# Altium footprint library PcbLib1.PcbLib: 26 footprints (part 2 of 2)
Each footprint in its own frame and in the unit in brackets; x right, y up, seen from the top. Pads: shape width x height; smd on the part's side, far side on the other; paste and mask are expansions set on the pad; w line width, h text height; cw(c..) or ccw(c..) is an arc to the next point about the centre after c.
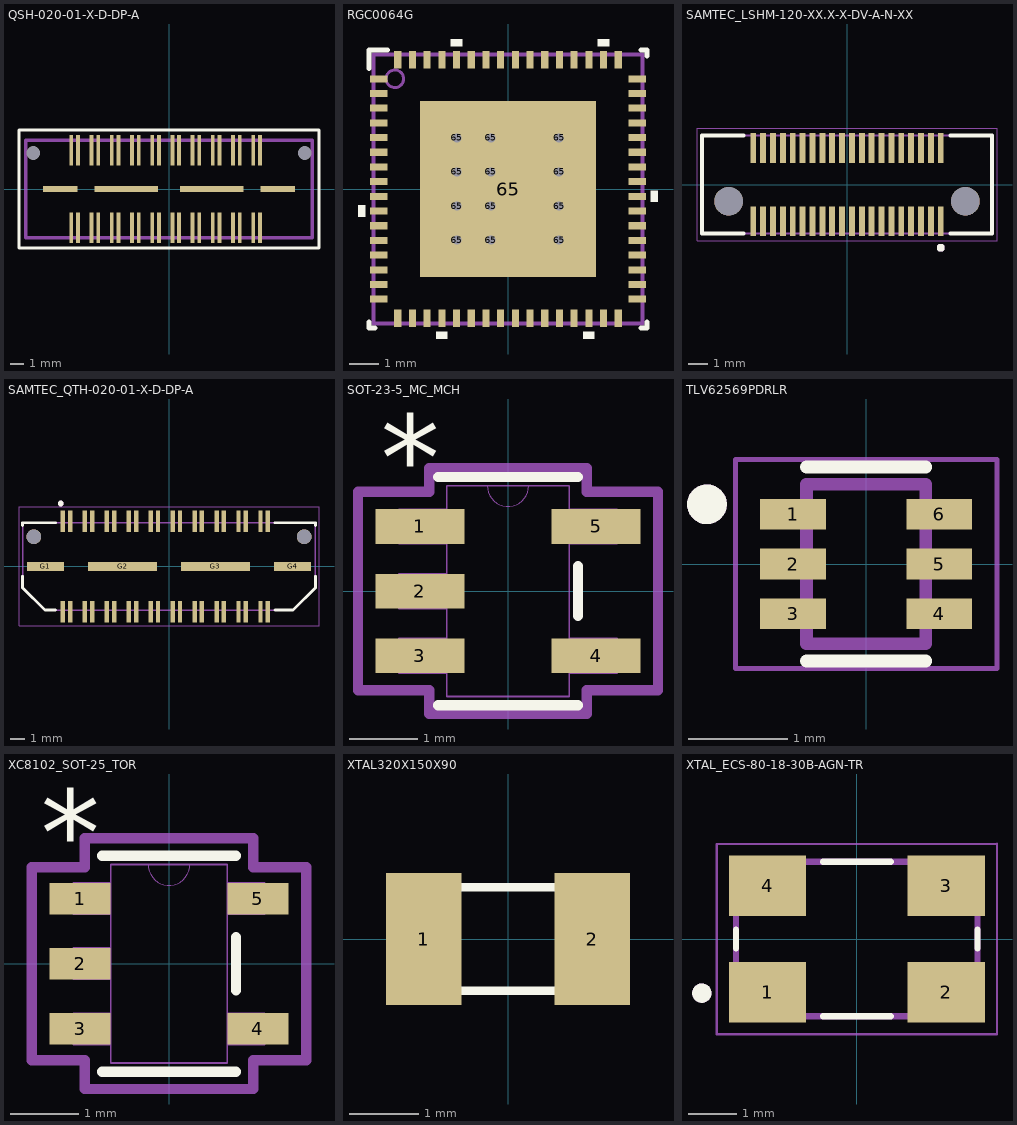
[diagram p1: the footprints below, top view; thin cyan lines are the x and y axes]

## PCBComponent_1 [mm]

## QSH-020-01-X-D-DP-A [mm]
pads (46):
  rect 0.28x2.27 smd mask+0.05: 1(-7.25,-2.87) 2(-7.25,2.87) 3(-6.75,-2.87) 4(-6.75,2.87) 5(-5.75,-2.87) 6(-5.75,2.87) 7(-5.25,-2.87) 8(-5.25,2.87) 9(-4.25,-2.87) 10(-4.25,2.87) 11(-3.75,-2.87) 12(-3.75,2.87) 13(-2.75,-2.87) 14(-2.75,2.87) 15(-2.25,-2.87) 16(-2.25,2.87) 17(-1.25,-2.87) 18(-1.25,2.87) 19(-0.75,-2.87) 20(-0.75,2.87) 21(0.25,-2.87) 22(0.25,2.87) 23(0.75,-2.87) 24(0.75,2.87) 25(1.75,-2.87) 26(1.75,2.87) 27(2.25,-2.87) 28(2.25,2.87) 29(3.25,-2.87) 30(3.25,2.87) 31(3.75,-2.87) 32(3.75,2.87) 33(4.75,-2.87) 34(4.75,2.87) 35(5.25,-2.87) 36(5.25,2.87) 37(6.25,-2.87) 38(6.25,2.87) 39(6.75,-2.87) 40(6.75,2.87)
  rect 2.54x0.43 smd mask+0.05: G1(-8.065,0) G4(8.065,0)
  rect 4.7x0.43 smd mask+0.05: G2(-3.175,0) G3(3.175,0)
  round 0 hole 1.02 unplated: MH1(-10.065,2.67) MH2(10.065,2.67)
Top Overlay:
  lines w0.254: -11.13,-4.38 11.13,-4.38 11.13,4.38 -11.13,4.38 -11.13,-4.38
Mechanical 1:
  lines w0.254: -10.636,-3.62 10.636,-3.62 10.636,3.62 -10.636,3.62 -10.636,-3.62
  text "J1" at -0.497,-0.508 h0.76
3D body "QSH-020-01-L-D-DP-A.stp": height 3.06, standoff -0.94, extent -10.655,-3.747 10.655,3.747

## RGC0064G [mm]
pads (77):
  rect 0.6x0.24 smd paste+0 mask+0: 1(-4.4,3.75) 2(-4.4,3.25) 3(-4.4,2.75) 4(-4.4,2.25) 5(-4.4,1.75) 6(-4.4,1.25) 7(-4.4,0.75) 8(-4.4,0.25) 9(-4.4,-0.25) 10(-4.4,-0.75) 11(-4.4,-1.25) 12(-4.4,-1.75) 13(-4.4,-2.25) 14(-4.4,-2.75) 15(-4.4,-3.25) 16(-4.4,-3.75) 33(4.4,-3.75) 34(4.4,-3.25) 35(4.4,-2.75) 36(4.4,-2.25) 37(4.4,-1.75) 38(4.4,-1.25) 39(4.4,-0.75) 40(4.4,-0.25) 41(4.4,0.25) 42(4.4,0.75) 43(4.4,1.25) 44(4.4,1.75) 45(4.4,2.25) 46(4.4,2.75) 47(4.4,3.25) 48(4.4,3.75)
  rect 0.24x0.6 smd paste+0 mask+0: 17(-3.751,-4.4) 18(-3.251,-4.4) 19(-2.751,-4.4) 20(-2.251,-4.4) 21(-1.75,-4.4) 22(-1.25,-4.4) 23(-0.75,-4.4) 24(-0.25,-4.4) 25(0.25,-4.4) 26(0.75,-4.4) 27(1.25,-4.4) 28(1.75,-4.4) 29(2.251,-4.4) 30(2.751,-4.4) 31(3.251,-4.4) 32(3.751,-4.4) 49(3.751,4.4) 50(3.251,4.4) 51(2.751,4.4) 52(2.251,4.4) 53(1.75,4.4) 54(1.25,4.4) 55(0.75,4.4) 56(0.25,4.4) 57(-0.25,4.4) 58(-0.75,4.4) 59(-1.25,4.4) 60(-1.75,4.4) 61(-2.251,4.4) 62(-2.751,4.4) 63(-3.251,4.4) 64(-3.751,4.4)
  round 0.5 hole 0.3 mask+0: 65(-1.74,-1.74) 65(-1.74,-0.58) 65(-1.74,0.58) 65(-1.74,1.74) 65(-0.58,-1.74) 65(-0.58,-0.58) 65(-0.58,0.58) 65(-0.58,1.74) 65(1.74,-1.74) 65(1.74,-0.58) 65(1.74,0.58) 65(1.74,1.74)
  rect 6x6 smd paste-3 mask+0: 65(0,0)
Top Overlay:
  region: -1.56,5.103 -1.56,4.849 -1.941,4.849 -1.941,5.103
  region: 3.441,5.103 3.441,4.849 3.06,4.849 3.06,5.103
  region: 4.849,-0.44 4.849,-0.059 5.103,-0.059 5.103,-0.44
  region: 2.941,-5.103 2.941,-4.849 2.56,-4.849 2.56,-5.103
  region: -2.06,-5.103 -2.06,-4.849 -2.441,-4.849 -2.441,-5.103
  region: -4.849,-0.941 -4.849,-0.56 -5.103,-0.56 -5.103,-0.941
  lines w0.178: -4.725,-4.525 -4.725,-4.725 -4.525,-4.725 ; -4.725,4.096 -4.725,4.725 -4.097,4.725 ; 4.525,-4.725 4.725,-4.725 4.725,-4.525 ; 4.525,4.725 4.725,4.725 4.725,4.525
Top Paste:
  region: 1.84,-1.84 1.84,-2.8 2.8,-2.8 2.8,-1.84
  region: 0.68,-1.84 0.68,-2.8 1.64,-2.8 1.64,-1.84
  region: -0.48,-1.84 -0.48,-2.8 0.48,-2.8 0.48,-1.84
  region: 1.84,-0.68 1.84,-1.64 2.8,-1.64 2.8,-0.68
  region: 0.68,-0.68 0.68,-1.64 1.64,-1.64 1.64,-0.68
  region: -1.64,-1.84 -1.64,-2.8 -0.68,-2.8 -0.68,-1.84
  region: -2.8,-1.84 -2.8,-2.8 -1.84,-2.8 -1.84,-1.84
  region: -2.8,-0.68 -2.8,-1.64 -1.84,-1.64 -1.84,-0.68
  region: -1.64,-0.68 -1.64,-1.64 -0.68,-1.64 -0.68,-0.68
  region: -0.48,-0.68 -0.48,-1.64 0.48,-1.64 0.48,-0.68
  region: 1.84,0.48 1.84,-0.48 2.8,-0.48 2.8,0.48
  region: 1.84,1.64 1.84,0.68 2.8,0.68 2.8,1.64
  region: 0.68,1.64 0.68,0.68 1.64,0.68 1.64,1.64
  region: 1.84,2.8 1.84,1.84 2.8,1.84 2.8,2.8
  region: 0.68,2.8 0.68,1.84 1.64,1.84 1.64,2.8
  region: -0.48,2.8 -0.48,1.84 0.48,1.84 0.48,2.8
  region: -1.64,2.8 -1.64,1.84 -0.68,1.84 -0.68,2.8
  region: -2.8,2.8 -2.8,1.84 -1.84,1.84 -1.84,2.8
  region: -0.48,1.64 -0.48,0.68 0.48,0.68 0.48,1.64
  region: -1.64,1.64 -1.64,0.68 -0.68,0.68 -0.68,1.64
  region: -2.8,1.64 -2.8,0.68 -1.84,0.68 -1.84,1.64
  region: -2.8,0.48 -2.8,-0.48 -1.84,-0.48 -1.84,0.48
  region: 0.68,0.48 0.68,-0.48 1.64,-0.48 1.64,0.48
  region: -1.64,0.48 -1.64,-0.48 -0.68,-0.48 -0.68,0.48
  region: -0.48,0.48 -0.48,-0.48 0.48,-0.48 0.48,0.48
Mechanical 13:
  circle w0.1: c-3.85,3.75 r0.3
  lines w0.127: -4.575,-4.575 -4.575,4.575 4.575,4.575 4.575,-4.575 -4.575,-4.575 ; -4.575,-3.9 -4.575,-3.6 -4.575,-3.9 ; -4.575,-3.4 -4.575,-3.1 -4.575,-3.4 ; -4.575,-2.9 -4.575,-2.6 -4.575,-2.9 ; -4.575,-2.4 -4.575,-2.1 -4.575,-2.4 ; -4.575,-1.9 -4.575,-1.6 -4.575,-1.9 ; -4.575,-1.4 -4.575,-1.1 -4.575,-1.4 ; -4.575,-0.9 -4.575,-0.6 -4.575,-0.9 ; -4.575,-0.4 -4.575,-0.1 -4.575,-0.4 ; -4.575,0.1 -4.575,0.4 -4.575,0.1 ; -4.575,0.6 -4.575,0.9 -4.575,0.6 ; -4.575,1.1 -4.575,1.4 -4.575,1.1 ; -4.575,1.6 -4.575,1.9 -4.575,1.6 ; -4.575,2.1 -4.575,2.4 -4.575,2.1 ; -4.575,2.6 -4.575,2.9 -4.575,2.6 ; -4.575,3.1 -4.575,3.4 -4.575,3.1 ; -4.575,3.6 -4.575,3.9 -4.575,3.6 ; -3.9,-4.575 -3.6,-4.575 -3.9,-4.575 ; -3.9,4.575 -3.6,4.575 -3.9,4.575 ; -3.4,-4.575 -3.1,-4.575 -3.4,-4.575 ; -3.4,4.575 -3.1,4.575 -3.4,4.575 ; -2.9,-4.575 -2.6,-4.575 -2.9,-4.575 ; -2.9,4.575 -2.6,4.575 -2.9,4.575 ; -2.4,-4.575 -2.1,-4.575 -2.4,-4.575 ; -2.4,4.575 -2.1,4.575 -2.4,4.575 ; -1.9,-4.575 -1.6,-4.575 -1.9,-4.575 ; -1.9,4.575 -1.6,4.575 -1.9,4.575 ; -1.4,-4.575 -1.1,-4.575 -1.4,-4.575 ; -1.4,4.575 -1.1,4.575 -1.4,4.575 ; -0.9,-4.575 -0.6,-4.575 -0.9,-4.575 ; -0.9,4.575 -0.6,4.575 -0.9,4.575 ; -0.4,-4.575 -0.1,-4.575 -0.4,-4.575 ; -0.4,4.575 -0.1,4.575 -0.4,4.575 ; 0.1,-4.575 0.4,-4.575 0.1,-4.575 ; 0.1,4.575 0.4,4.575 0.1,4.575 ; 0.6,-4.575 0.9,-4.575 0.6,-4.575 ; 0.6,4.575 0.9,4.575 0.6,4.575 ; 1.1,-4.575 1.4,-4.575 1.1,-4.575 ; 1.1,4.575 1.4,4.575 1.1,4.575 ; 1.6,-4.575 1.9,-4.575 1.6,-4.575 ; 1.6,4.575 1.9,4.575 1.6,4.575 ; 2.1,-4.575 2.4,-4.575 2.1,-4.575 ; 2.1,4.575 2.4,4.575 2.1,4.575 ; 2.6,-4.575 2.9,-4.575 2.6,-4.575 ; 2.6,4.575 2.9,4.575 2.6,4.575 ; 3.1,-4.575 3.4,-4.575 3.1,-4.575 ; 3.1,4.575 3.4,4.575 3.1,4.575 ; 3.6,-4.575 3.9,-4.575 3.6,-4.575 ; 3.6,4.575 3.9,4.575 3.6,4.575 ; 4.575,-3.9 4.575,-3.6 4.575,-3.9 ; 4.575,-3.4 4.575,-3.1 4.575,-3.4 ; 4.575,-2.9 4.575,-2.6 4.575,-2.9 ; 4.575,-2.4 4.575,-2.1 4.575,-2.4 ; 4.575,-1.9 4.575,-1.6 4.575,-1.9 ; 4.575,-1.4 4.575,-1.1 4.575,-1.4 ; 4.575,-0.9 4.575,-0.6 4.575,-0.9 ; 4.575,-0.4 4.575,-0.1 4.575,-0.4 ; 4.575,0.1 4.575,0.4 4.575,0.1 ; 4.575,0.6 4.575,0.9 4.575,0.6 ; 4.575,1.1 4.575,1.4 4.575,1.1 ; 4.575,1.6 4.575,1.9 4.575,1.6 ; 4.575,2.1 4.575,2.4 4.575,2.1 ; 4.575,2.6 4.575,2.9 4.575,2.6 ; 4.575,3.1 4.575,3.4 4.575,3.1 ; 4.575,3.6 4.575,3.9 4.575,3.6
  text ".Designator" at -1.85,-1.135 h1.27
3D body "RGC0064B.stp": height 1, standoff 0, extent -4.5,-4.5 4.5,4.5
3D body: height 0.25, standoff 0, extent 0,0 0.254,0.254

## SAMTEC_LSHM-120-XX.X-X-DV-A-N-XX [mm]
pads (42):
  rect 0.3x1.5 smd: 01(4.75,-1.85) 02(4.75,1.85) 03(4.25,-1.85) 04(4.25,1.85) 05(3.75,-1.85) 06(3.75,1.85) 07(3.25,-1.85) 08(3.25,1.85) 09(2.75,-1.85) 10(2.75,1.85) 11(2.25,-1.85) 12(2.25,1.85) 13(1.75,-1.85) 14(1.75,1.85) 15(1.25,-1.85) 16(1.25,1.85) 17(0.75,-1.85) 18(0.75,1.85) 19(0.25,-1.85) 20(0.25,1.85) 21(-0.25,-1.85) 22(-0.25,1.85) 23(-0.75,-1.85) 24(-0.75,1.85) 25(-1.25,-1.85) 26(-1.25,1.85) 27(-1.75,-1.85) 28(-1.75,1.85) 29(-2.25,-1.85) 30(-2.25,1.85) 31(-2.75,-1.85) 32(-2.75,1.85) 33(-3.25,-1.85) 34(-3.25,1.85) 35(-3.75,-1.85) 36(-3.75,1.85) 37(-4.25,-1.85) 38(-4.25,1.85) 39(-4.75,-1.85) 40(-4.75,1.85)
  round 1.45 hole 1.45 unplated: ""(-6,-0.85) ""(6,-0.85)
Top Overlay:
  circle w0.2: c4.75,-3.2 r0.1
  lines w0.2: -5.25,-2.49 -7.35,-2.49 -7.35,2.49 -5.25,2.49 ; 5.25,-2.49 7.35,-2.49 7.35,2.49 5.25,2.49
Mechanical 13:
  circle w0.2: c4.75,-3.2 r0.1
  lines w0.1: -7.35,-2.49 7.35,-2.49 7.35,2.49 -7.35,2.49 -7.35,-2.49
Mechanical 15:
  lines w0.05: -7.6,-2.85 7.6,-2.85 7.6,2.85 -7.6,2.85 -7.6,-2.85
3D body "LSHM-120-02.5-L-DV-A-N-K-TR.stp": height 4.11, standoff -0.84, extent -7.4,-2.49 7.4,2.49

## SAMTEC_QTH-020-01-X-D-DP-A [mm]
pads (46):
  rect 0.3x1.45 smd: 01(-7.25,3.09) 02(-7.25,-3.09) 03(-6.75,3.09) 04(-6.75,-3.09) 05(-5.75,3.09) 06(-5.75,-3.09) 07(-5.25,3.09) 08(-5.25,-3.09) 09(-4.25,3.09) 10(-4.25,-3.09) 11(-3.75,3.09) 12(-3.75,-3.09) 13(-2.75,3.09) 14(-2.75,-3.09) 15(-2.25,3.09) 16(-2.25,-3.09) 17(-1.25,3.09) 18(-1.25,-3.09) 19(-0.75,3.09) 20(-0.75,-3.09) 21(0.25,3.09) 22(0.25,-3.09) 23(0.75,3.09) 24(0.75,-3.09) 25(1.75,3.09) 26(1.75,-3.09) 27(2.25,3.09) 28(2.25,-3.09) 29(3.25,3.09) 30(3.25,-3.09) 31(3.75,3.09) 32(3.75,-3.09) 33(4.75,3.09) 34(4.75,-3.09) 35(5.25,3.09) 36(5.25,-3.09) 37(6.25,3.09) 38(6.25,-3.09) 39(6.75,3.09) 40(6.75,-3.09)
  rect 2.54x0.64 smd: G1(-8.445,0) G4(8.445,0)
  rect 4.7x0.64 smd: G2(-3.175,0) G3(3.175,0)
  round 1.02 hole 1.02 unplated: ""(-9.24,2.03) ""(9.24,2.03)
Top Overlay:
  circle w0.2: c-7.4,4.3 r0.1
  lines w0.2: -10,-0.67 -10,-1.465 -8.48,-2.985 -7.75,-2.985 ; -10,2.79 -10,2.985 -7.75,2.985 ; 7.25,-2.985 8.48,-2.985 10,-1.465 10,-0.67 ; 7.25,2.985 10,2.985 10,2.79
Mechanical 13:
  circle w0.2: c-7.4,4.3 r0.1
  lines w0.1: -10,-1.465 -10,2.985 10,2.985 10,-1.465 8.48,-2.985 -8.48,-2.985 -10,-1.465
Mechanical 15:
  lines w0.05: -10.25,-4.065 -10.25,4.065 10.25,4.065 10.25,-4.065 -10.25,-4.065
3D body "QTH-020-01-L-D-DP-A.stp": height 4.08, standoff -0.95, extent -10.008,-3.556 10.008,3.556

## SOT-23-5_MC_MCH [mil]
pads (5):
  rect 51.56x20 smd paste+0 mask+0: 1(-51,37.4) 2(-51,0) 3(-51,-37.4) 4(51,-37.4) 5(51,37.4)
Top Overlay:
  lines w6: -40.5,-66 40.5,-66 ; -40.5,66 40.5,66 ; 40.5,-14.3 40.5,14.3
  text "*" at -73.5,52.4 h50
Mechanical 13:
  lines w0: -12,61 ccw(c0,61) 12,61
  lines w1: -63,-47.4 -63,-27.4 -35.5,-27.4 -35.5,-47.4 -63,-47.4 ; -63,-10 -63,10 -35.5,10 -35.5,-10 -63,-10 ; -63,27.4 -63,47.4 -35.5,47.4 -35.5,27.4 -63,27.4 ; -35.5,-61 35.5,-61 35.5,61 -35.5,61 -35.5,-61 ; 35.5,-47.4 35.5,-27.4 63,-27.4 63,-47.4 35.5,-47.4 ; 35.5,27.4 35.5,47.4 63,47.4 63,27.4 35.5,27.4
  text "*" at -38,14.4 h50
Mechanical 15:
  lines w6: -86.78,-57.4 -45.5,-57.4 -45.5,-71 45.5,-71 45.5,-57.4 86.78,-57.4 86.78,57.4 45.5,57.4 45.5,71 -45.5,71 -45.5,57.4 -86.78,57.4 -86.78,-57.4
3D body "SOT-23-5_MC_MCH.step": height 57.09, standoff 0, extent -62.99,-60.98 62.99,60.98

## TLV62569PDRLR [mm]
pads (6):
  rect 0.66x0.31 smd: 1(-0.735,0.5) 2(-0.735,0) 3(-0.735,-0.5) 4(0.735,-0.5) 5(0.735,0) 6(0.735,0.5)
Top Overlay:
  circle w0.2: c-1.6,0.6 r0.1
  lines w0.127: -0.6,-0.975 0.6,-0.975 ; -0.6,0.975 0.6,0.975
Mechanical 13:
  circle w0.2: c-1.6,0.6 r0.1
  lines w0.127: -0.6,-0.8 -0.6,0.8 0.6,0.8 0.6,-0.8 -0.6,-0.8
Mechanical 15:
  lines w0.05: -1.315,-1.05 -1.315,1.05 1.315,1.05 1.315,-1.05 -1.315,-1.05
3D body "DRL0006A.stp": height 0.61, standoff 0.01, extent -0.8,-0.8 0.8,0.8

## XC8102_SOT-25_TOR [mil]
pads (5):
  rect 35.28x18 smd paste+0 mask+0: 1(-51.14,37.4) 2(-51.14,0) 3(-51.14,-37.4) 4(51.14,-37.4) 5(51.14,37.4)
Top Overlay:
  lines w6: -38.5,-62 38.5,-62 ; -38.5,62 38.5,62 ; 38.5,-15.3 38.5,15.3
  text "*" at -73.64,50.4 h50
Mechanical 13:
  lines w0: -12,57 ccw(c0,57) 12,57
  lines w1: -55,-46.4 -55,-28.4 -33.5,-28.4 -33.5,-46.4 -55,-46.4 ; -55,-9 -55,9 -33.5,9 -33.5,-9 -55,-9 ; -55,28.4 -55,46.4 -33.5,46.4 -33.5,28.4 -55,28.4 ; -33.5,-57 33.5,-57 33.5,57 -33.5,57 -33.5,-57 ; 33.5,-46.4 33.5,-28.4 55,-28.4 55,-46.4 33.5,-46.4 ; 33.5,28.4 33.5,46.4 55,46.4 55,28.4 33.5,28.4
  text "*" at -36,7.4 h50
Mechanical 15:
  lines w6: -79,-55.4 -48.5,-55.4 -48.5,-72 48.5,-72 48.5,-55.4 79,-55.4 79,55.4 48.5,55.4 48.5,72 -48.5,72 -48.5,55.4 -79,55.4 -79,-55.4
3D body "XC8102_SOT-25_TOR.step": height 51.1, standoff 0, extent -55,-57.01 55,57.01

## XTAL320X150X90 [mil]
pads (2):
  rect 43x75 smd: 1(-48,0) 2(48,0)
Top Overlay:
  lines w5: -63,-29.5 -63,29.5 63,29.5 63,-29.5 -63,-29.5
3D body "ABS07-32.768KHZ-9-T--3DModel-STEP-400430.STEP": height 35.51, standoff 0.5, extent -63,-29.5 63,29.5

## XTAL_ECS-80-18-30B-AGN-TR [mm]
pads (4):
  rect 1.6x1.25 smd: 1(-1.85,-1.1) 2(1.85,-1.1) 3(1.85,1.1) 4(-1.85,1.1)
Top Overlay:
  circle w0.2: c-3.21,-1.12 r0.1
  lines w0.127: -2.5,-0.2 -2.5,0.2 ; -0.7,-1.6 0.7,-1.6 ; -0.7,1.6 0.7,1.6 ; 2.5,-0.2 2.5,0.2
Mechanical 13:
  circle w0.2: c-3.21,-1.12 r0.1
  lines w0.127: -2.5,-1.6 -2.5,1.6 2.5,1.6 2.5,-1.6 -2.5,-1.6
Mechanical 15:
  lines w0.05: -2.9,-1.975 -2.9,1.96 2.9,1.975 2.9,-1.975 -2.9,-1.975
3D body "ECS-80-18-30B-AGN-TR.STEP": height 0.86, standoff 0.01, extent -2.5,-1.6 2.5,1.6